# Altium schematic symbol library Connectors.SchLib: 2 symbols
Pins are listed as number, name and electrical type; pins without a type are passive.

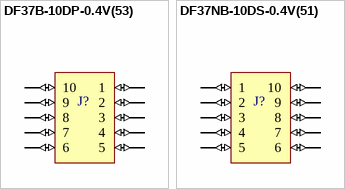
[diagram p0: symbols DF37B-10DP-0.4V(53) to DF37NB-10DS-0.4V(51)]

## DF37B-10DP-0.4V(53)
designator J?
footprint DF37B-10DP-0.4V(53)
pins: 1 (io), 2 (io), 3 (io), 4 (io), 5 (io), 6 (io), 7 (io), 8 (io), 9 (io), 10 (io)

## DF37NB-10DS-0.4V(51)
designator J?
footprint DF37NB-10DS-0.4V(51)
pins: 1 (io), 2 (io), 3 (io), 4 (io), 5 (io), 6 (io), 7 (io), 8 (io), 9 (io), 10 (io)